# Altium schematic symbol library SCH - CONNECTORS - SAMTEC - SFM-115-02-L-D-A.SCHLIB: 1 symbol
Pins are listed as number, name and electrical type; pins without a type are passive.

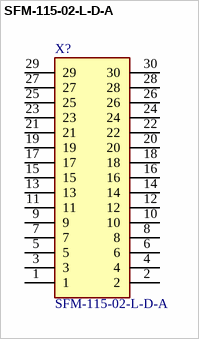
[diagram p0: symbol SFM-115-02-L-D-A]

## SFM-115-02-L-D-A
designator X?
Connector; Manufacturer_Name: SAMTEC; Datasheet Link: http://suddendocs.samtec.com/prints/sfm-1xx-xx-xxx-d-xxx-mkt.pdf; Manufacturer_Part_Number: SFM-115-02-L-D-A; Arrow Part Number: SFM-115-02-L-D-A; Arrow Price/Stock: https://www.arrow.com/en/products/sfm-115-02-l-d-a/samtec; Mouser Part Number: 200-SFM11502LDA; Mouser Price/Stock: https://www.mouser.com/Search/Refine.aspx?Keyword=200-SFM11502LDA
footprint SFM-115-YY-ZZZ-D-A
pins: 1, 2, 3, 4, 5, 6, 7, 8, 9, 10, 11, 12, 13, 14, 15, 16, 17, 18, 19, 20, 21, 22, 23, 24, 25, 26, 27, 28, 29, 30